# EAGLE library part TPS63001DRCR (library digikey_2)
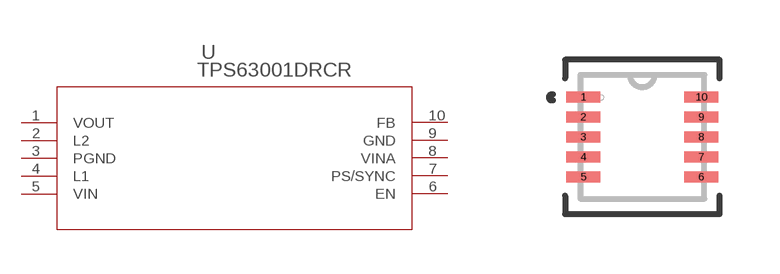
[diagram p0: symbol with the pads of DRC10_2P4X1P65; footprint DRC10_2P4X1P65]

Designator prefix U

## TPS63001DRCR (MANUFACTURER_PART_NUMBER: TPS63001DRCR; VENDOR: Texas Instruments)  [DRC10_2P4X1P65]
1  VOUT  out
2  L2  in
3  PGND  pwr
4  L1  in
5  VIN  in
6  EN  in
7  PS/SYNC  in
8  VINA  in
9  GND  pwr
10  FB  in

## Footprint DRC10_2P4X1P65 (pad centres in mm)
smd 0.85 x 0.28: 1 -1.475,1; 2 -1.475,0.5; 3 -1.475,0; 4 -1.475,-0.5; 5 -1.475,-1; 6 1.475,-1; 7 1.475,-0.5; 8 1.475,0; 9 1.475,0.5; 10 1.475,1